# Altium schematic symbol library BWCD-L5.0W2.0H2.51_BWCD-L5.0W2.0H2.5.SCHLIB: 1 symbol
Pins are listed as number, name and electrical type; pins without a type are passive.

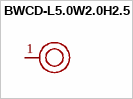
[diagram p0: symbol BWCD-L5.0W2.0H2.5]

## BWCD-L5.0W2.0H2.5
designator U??  (value not drawn)
Manufacturer: BAT WIRELESS(蝙蝠无线); Add into BOM: yes; Symbol: BWCD-L5.0W2.0H2.5; Device: BWCD-L5.0W2.0H2.5; LCSC Part Name: 天线顶针; Supplier Part: C2826549; Manufacturer Part: BWCD-L5.0W2.0H2.5; Supplier Footprint: -; JLCPCB Part Class: Extended Part; Datasheet: https://atta.szlcsc.com/upload/public/pdf/source/20210416/C2826549_AFE8D68941B02645C9C3BE17D86096B9.pdf; Supplier: LCSC; Convert to PCB: yes
footprint CONN-SMD_BWCD-L5.0W2.0H2.5
pins: 1